# EAGLE library part USB_C (library MTM_untested)
USB Type C 16Pin Connector Super Speed pins not available on the 16-pin purely SMD connector so this part is best for USB 2.0 implementations. D1 and D2 are tied together enabling D+/- no matter which way the cable is plugged into the connector. The two channel configuration pins (CC1/2) are exposed. These are normally connected to ground via 5.1k resistors but can be reconfigured for high current/high power applications.
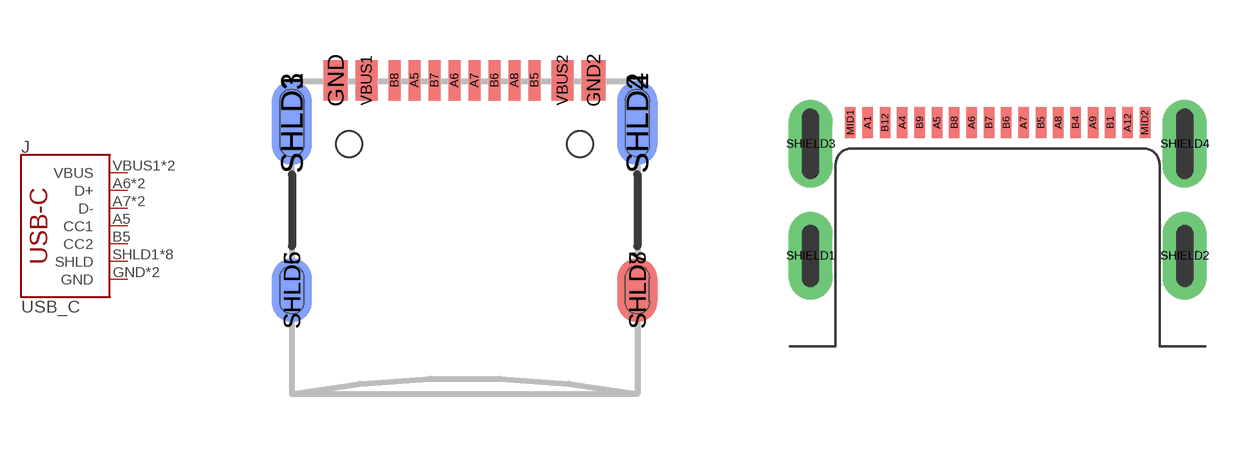
[diagram p11: symbol with the pads of USB-C-16P; footprints USB-C-16P, CX90M-16P-USB-C-MIDMOUNT]

Designator prefix J

## USB_C2-LAYER (PROD_ID: CONN-14122)  [USB-C-16P]
A5  CC1
A6  D+
A7  D-
B5  CC2
B6  D+
B7  D-
GND  GND
GND2  GND
SHLD1  SHLD
SHLD2  SHLD
SHLD3  SHLD
SHLD4  SHLD
SHLD5  SHLD
SHLD6  SHLD
SHLD7  SHLD
SHLD8  SHLD
VBUS1  VBUS
VBUS2  VBUS

## USB_C  [CX90M-16P-USB-C-MIDMOUNT]
A1  GND
A4  VBUS
A5  CC1
A6  D+
A7  D-
A9  VBUS
A12  GND
B1  GND
B4  VBUS
B5  CC2
B6  D+
B7  D-
B9  VBUS
B12  GND
SHIELD1  SHLD
SHIELD2  SHLD
SHIELD3  SHLD
SHIELD4  SHLD

## Footprint USB-C-16P (pad centres in mm)
smd 0.3 x 1.016: A5 -1.25,0.154; A6 -0.25,0.154; A7 0.25,0.154; A8 1.25,0.154; B5 1.75,0.154; B6 0.75,0.154; B7 -0.75,0.154; B8 -1.75,0.154
smd 0.6 x 1.016: GND -3.225,0.154; GND2 3.225,0.154
smd 1 x 2.1: SHLD1 -4.32,-0.915; SHLD2 4.32,-0.915
smd 1 x 2.1 bottom: SHLD3 -4.32,-0.915; SHLD4 4.32,-0.915
smd 1 x 1.6: SHLD5 -4.32,-5.095; SHLD8 4.32,-5.095
smd 1 x 1.6 bottom: SHLD6 -4.32,-5.095; SHLD7 4.32,-5.095
smd 0.55 x 1.016: VBUS1 -2.45,0.154; VBUS2 2.45,0.154
hole 0.65 at -2.89,-1.445
hole 0.65 at 2.89,-1.445

## Footprint CX90M-16P-USB-C-MIDMOUNT (pad centres in mm)
smd 0.3 x 0.9: A1 -3.75,3.85; A4 -2.75,3.85; A5 -1.75,3.85; A6 -0.75,3.85; A7 0.75,3.85; A8 1.75,3.85; A9 2.75,3.85; A12 3.75,3.85; B1 3.25,3.85; B4 2.25,3.85; B5 1.25,3.85; B6 0.25,3.85; B7 -0.25,3.85; B8 -1.25,3.85; B9 -2.25,3.85; B12 -3.25,3.85; MID1 -4.25,3.85; MID2 4.25,3.85
drill 0.5 pad 1.27 long: SHIELD1 -5.4,0; SHIELD2 5.4,0; SHIELD3 -5.4,3.23; SHIELD4 5.4,3.23